# Altium footprint library PHDR-2X4-TH-F.PcbLib: 1 footprints
Each footprint in its own frame and in the unit in brackets; x right, y up, seen from the top. Pads: shape width x height; smd on the part's side, far side on the other; paste and mask are expansions set on the pad; w line width, h text height; cw(c..) or ccw(c..) is an arc to the next point about the centre after c.
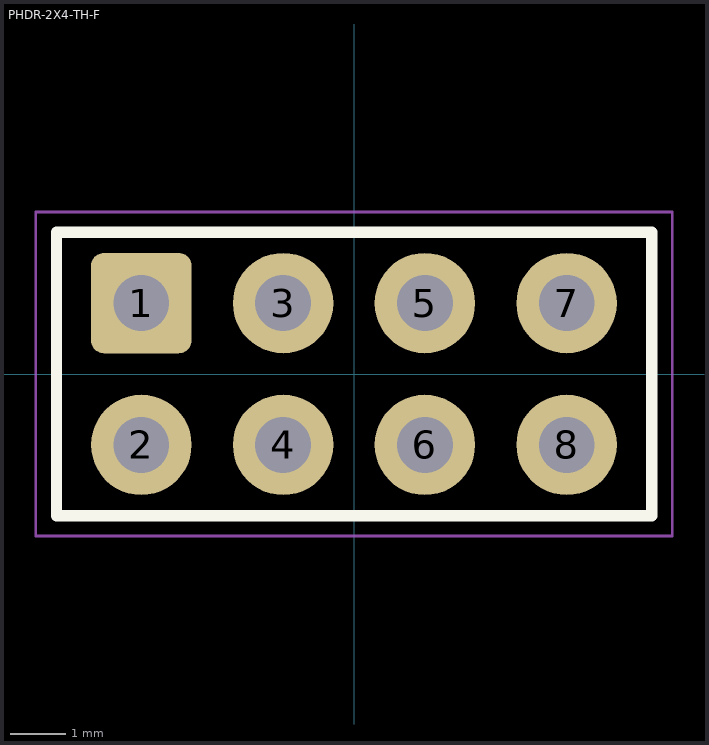
[diagram p0: the footprint, top view; thin cyan lines are the x and y axes]

## PHDR-2X4-TH-F [mm] "PinHeader female 2x4 TH Pitch 2.54mm"
height 9.5
pads (8):
  rrect25% 1.8x1.8 hole 1: 1(-3.81,1.27)
  round 1.8 hole 1: 2(-3.81,-1.27) 3(-1.27,1.27) 4(-1.27,-1.27) 5(1.27,1.27) 6(1.27,-1.27) 7(3.81,1.27) 8(3.81,-1.27)
Top Overlay:
  lines w0.2: -5.33,-2.54 5.334,-2.54 5.334,2.54 -5.33,2.54 -5.33,-2.54
Top Assembly:
  lines w0.1: -5.33,-2.54 5.334,-2.54 5.334,2.54 -5.33,2.54 -5.33,-2.54
Top Courtyard:
  lines w0.05: -5.7,-2.9 5.7,-2.9 5.7,2.9 -5.7,2.9 -5.7,-2.9
Top Designator:
  text ".Designator" at -7.498,-0.5 h1.5
3D body "User Library-zl262-8d_p2-54_l10-66_w5_h8-5.step": height 8.5, standoff -3, extent -5.33,-2.5 5.33,2.5